# EAGLE library part RESISTOR-ARRAY-7 (library BaseApp)
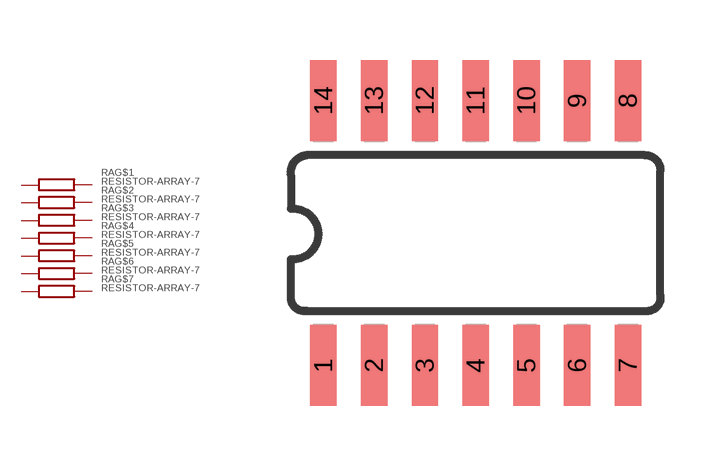
[diagram p60: symbol with the pads of SOIC-14; footprint SOIC-14]

Designator prefix RA; gates G$1=R-ARRAY-4 G$2=R-ARRAY-4 G$3=R-ARRAY-4 G$4=R-ARRAY-4 G$5=R-ARRAY-4 G$6=R-ARRAY-4 G$7=R-ARRAY-4

## RESISTOR-ARRAY-7  [SOIC-14]
1  G$1:1  pas
2  G$2:1  pas
3  G$3:1  pas
4  G$4:1  pas
5  G$5:1  pas
6  G$6:1  pas
7  G$7:1  pas
8  G$7:2  pas
9  G$6:2  pas
10  G$5:2  pas
11  G$4:2  pas
12  G$3:2  pas
13  G$2:2  pas
14  G$1:2  pas

## Footprint SOIC-14 (pad centres in mm)
smd 0.66 x 2.032: 1 -3.175,-3.315; 2 -1.905,-3.315; 3 -0.635,-3.315; 4 0.635,-3.315; 5 1.905,-3.315; 6 3.175,-3.315; 7 4.445,-3.315; 8 4.445,3.315; 9 3.175,3.315; 10 1.905,3.315; 11 0.635,3.315; 12 -0.635,3.315; 13 -1.905,3.315; 14 -3.175,3.315